# EAGLE library part WE-LAN_10/100_BASETX_749010110 (library Wuerth_Elektronik_eiSos_ v6.0)
LAN-Transformer WE-LAN 10/100 Base Tx - Compliant with IEEE 802.3 standards - SMD -- Ethernet -- Power over Ethernet -- 1 Gigabit Ethernet -- Compliant with most IC's for ethernet applications like Intel, AMD, Globespan and Realtek -- Hub, Router, Switch
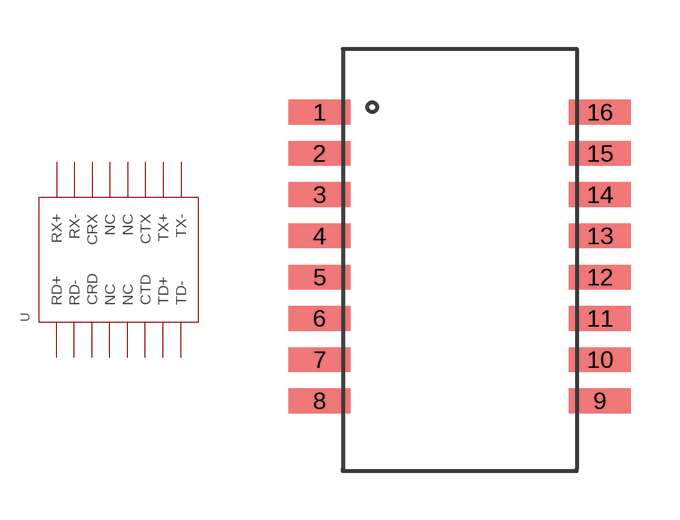
[diagram p29: symbol with the pads of WE-LAN_10/100_BASETX_749010110; footprint WE-LAN_10/100_BASETX_749010110]

Designator prefix -

## WE-LAN_10/100_BASETX_749010110  [WE-LAN_10/100_BASETX_749010110]
1  RD+  pas
2  RD-  pas
3  CRD  pas
4  NC  pas
5  NC  pas
6  CTD  pas
7  TD+  pas
8  TD-  pas
9  TX-  pas
10  TX+  pas
11  CTX  pas
12  NC  pas
13  NC  pas
14  CRX  pas
15  RX-  pas
16  RX+  pas

## Footprint WE-LAN_10/100_BASETX_749010110 (pad centres in mm)
WE-LAN 10/100 BaseTx
smd 1.91 x 0.76: 1 -4.317,4.445; 2 -4.317,3.175; 3 -4.317,1.905; 4 -4.317,0.635; 5 -4.317,-0.635; 6 -4.317,-1.905; 7 -4.317,-3.175; 8 -4.317,-4.445; 9 4.317,-4.445; 10 4.317,-3.175; 11 4.317,-1.905; 12 4.317,-0.635; 13 4.317,0.635; 14 4.317,1.905; 15 4.317,3.175; 16 4.317,4.445